# EAGLE library part 74HC4051 (library ERIC)
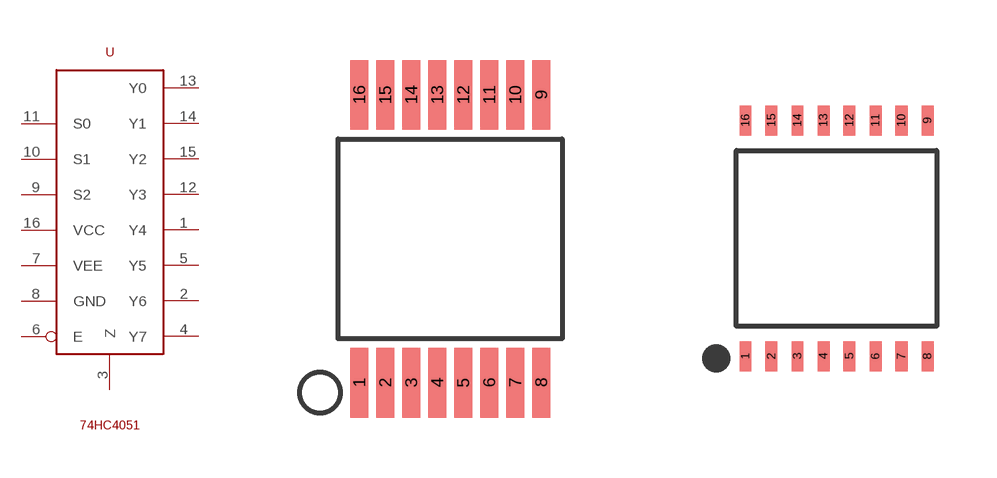
[diagram p20: symbol with the pads of SSOP-16; footprints SSOP-16, TSSOP_16]

Designator prefix -

## 74HC4051SSOP  [SSOP-16]
1  Y4
2  Y6
3  Z
4  Y7
5  Y5
6  E
7  VEE  pwr
8  GND  pwr
9  S2
10  S1
11  S0
12  Y3
13  Y0
14  Y1
15  Y2
16  VCC  pwr

## 74HC4051TSSOP  [TSSOP_16]
Pads as for SSOP-16

## 74HC4051SOIC  [SOIC-16_3.9MM]
Pads as for SSOP-16

## Footprint SSOP-16 (pad centres in mm)
16 lead SSOP package
smd 0.45 x 1.75: 1 -2.275,-3.6; 2 -1.625,-3.6; 3 -0.975,-3.6; 4 -0.325,-3.6; 5 0.325,-3.6; 6 0.975,-3.6; 7 1.625,-3.6; 8 2.275,-3.6; 9 2.275,3.6; 10 1.625,3.6; 11 0.975,3.6; 12 0.325,3.6; 13 -0.325,3.6; 14 -0.975,3.6; 15 -1.625,3.6; 16 -2.275,3.6

## Footprint TSSOP_16 (pad centres in mm)
smd 0.3 x 0.75: 1 -2.275,-2.95; 2 -1.625,-2.95; 3 -0.975,-2.95; 4 -0.325,-2.95; 5 0.325,-2.95; 6 0.975,-2.95; 7 1.625,-2.95; 8 2.275,-2.95; 9 2.275,2.95; 10 1.625,2.95; 11 0.975,2.95; 12 0.325,2.95; 13 -0.325,2.95; 14 -0.975,2.95; 15 -1.625,2.95; 16 -2.275,2.95

## Footprint SOIC-16_3.9MM (pad centres in mm)
16 Lead Plastic Small Outline (SL) - Narrow, 3.90 mm Body [SOIC] page 158
smd 0.6 x 1.5: 1 -4.445,-2.7; 2 -3.175,-2.7; 3 -1.905,-2.7; 4 -0.635,-2.7; 5 0.635,-2.7; 6 1.905,-2.7; 7 3.175,-2.7; 8 4.445,-2.7; 9 4.445,2.7; 10 3.175,2.7; 11 1.905,2.7; 12 0.635,2.7; 13 -0.635,2.7; 14 -1.905,2.7; 15 -3.175,2.7; 16 -4.445,2.7